# EAGLE library part TF-01A (library TF-01A)
Connector - Card Sockets 8 1.1mm SMD RoHS Source: Datasheet <https://datasheet.lcsc.com/szlcsc/1903221101_Korean-Hroparts-Elec-TF-01A_C91145.pdf>
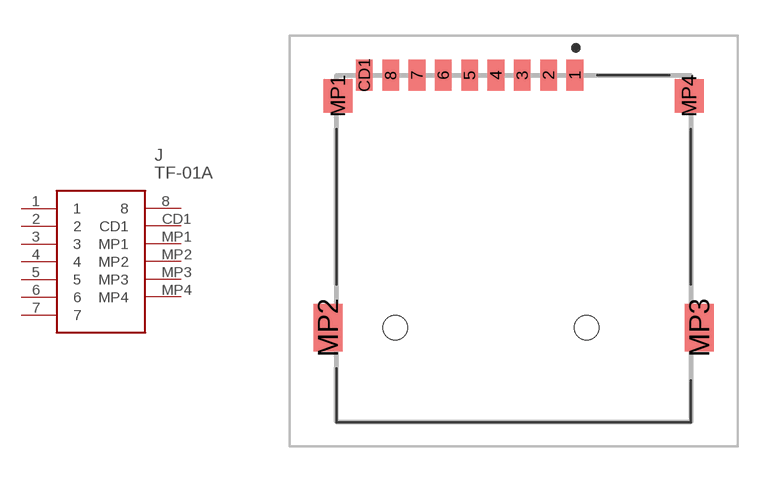
[diagram p0: symbol with the pads of TF01A; footprint TF01A]

Designator prefix J

## TF-01A (Description: Connector - Card Sockets 8 1.1mm SMD RoHS; Height: 1.85mm; Manufacturer_Name: Korean Hroparts Elec; Manufacturer_Part_Number: TF-01A)  [TF01A]
1  1
2  2
3  3
4  4
5  5
6  6
7  7
8  8
CD1  CD1
MP1  MP1
MP2  MP2
MP3  MP3
MP4  MP4

## Footprint TF01A (pad centres in mm)
TF-01A-6
smd 0.7 x 1.3: 1 2.56,7.25; 2 1.46,7.25; 3 0.36,7.25; 4 -0.74,7.25; 5 -1.84,7.25; 6 -2.94,7.25; 7 -4.04,7.25; 8 -5.14,7.25; CD1 -6.24,7.25
smd 1.2 x 1.4: MP1 -7.34,6.4; MP4 7.34,6.4
smd 1.2 x 2: MP2 -7.76,-3.3; MP3 7.76,-3.3
hole 1 at -4.95,-3.3
hole 1 at 3.05,-3.3